# EAGLE library part PE4259 (library RF)
PE4259 IC RF SWITCH SPDT 50 OHM SC70-6
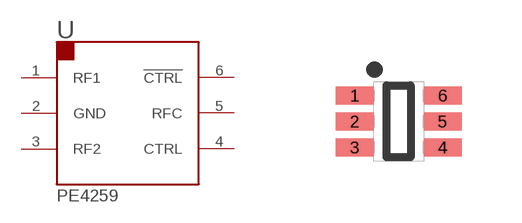
[diagram p1: symbol with the pads of SC-70-6; footprint SC-70-6]

Designator prefix U

## PE4259 (PARTNO: 01-100484-00)  [SC-70-6]
1  RF1  out
2  GND  pwr
3  RF2  out
4  CTRL  in
5  RFC  in
6  !CTRL  in

## Footprint SC-70-6 (pad centres in mm)
SC-70-6 Copied from PhaseIV Refence Package Library 4-16-13
smd 0.95 x 0.45: 1 -1.1,0.65; 2 -1.1,0; 3 -1.1,-0.65; 4 1.1,-0.65; 5 1.1,0; 6 1.1,0.65